# Altium schematic symbol library STM32_Phone.SchLib: 9 symbols
Pins are listed as number, name and electrical type; pins without a type are passive.

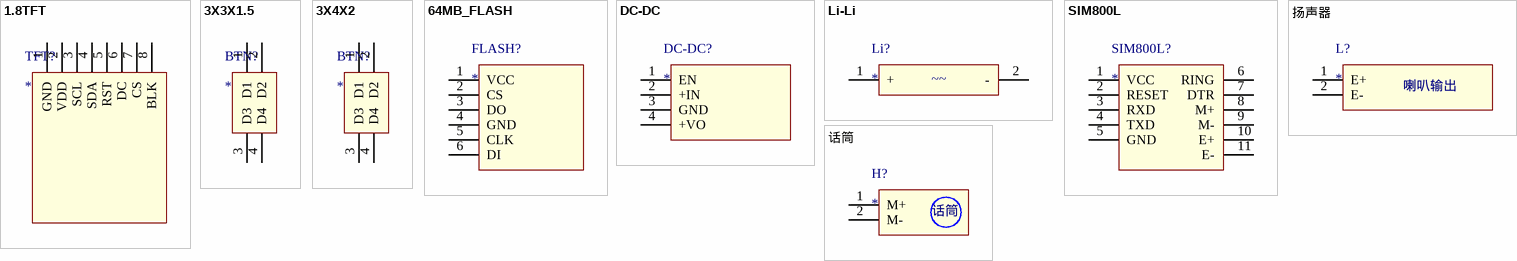
[diagram p0: symbols 1.8TFT to 话筒]

## 1.8TFT
designator TFT?
footprint 1.8TFT
pins: 1 GND, 2 VDD, 3 SCL, 4 SDA, 5 RST, 6 DC, 7 CS, 8 BLK

## 3X3X1.5
designator BTN?
footprint 3X3X1.5
pins: 1 D1, 2 D2, 3 D3, 4 D4

## 3X4X2
designator BTN?
footprint 3X4X2按钮
pins: 1 D1, 2 D2, 3 D3, 4 D4

## 64MB_FLASH
designator FLASH?
footprint 64MB_FLASH
pins: 1 VCC, 2 CS, 3 DO, 4 GND, 5 CLK, 6 DI

## DC-DC
designator DC-DC?
footprint DC-DC
pins: 1 EN, 2 +IN, 3 GND, 4 +VO

## Li-Li
designator Li?
footprint 单个5号电池盒
pins: 1 +, 2 -
text: ~~

## SIM800L
designator SIM800L?
footprint SIM800L
pins: 1 VCC, 2 RESET, 3 RXD, 4 TXD, 5 GND, 6 RING, 7 DTR, 8 M+, 9 M-, 10 E+, 11 E-

## 扬声器
designator L?
footprint 扬声器
pins: 1 E+, 2 E-
text: 喇叭输出

## 话筒
designator H?
footprint 麦克风话筒
pins: 1 M+, 2 M-